# EAGLE library part SM07B-GHS-TB(LF)(SN) (library SM07B-GHS-TB_LF__SN_)
Conn Shrouded Header HDR 7 POS 1.25mm Solder RA SMD Reel
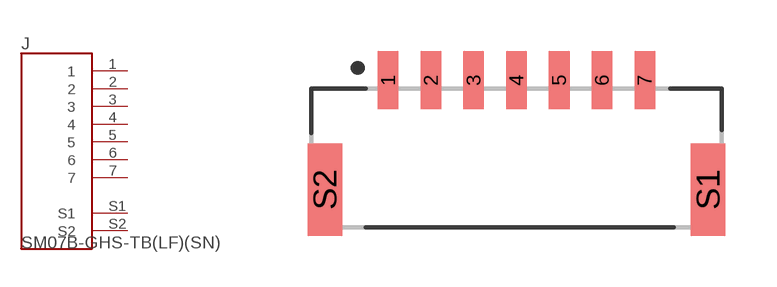
[diagram p0: symbol with the pads of JST_SM07B-GHS-TB(LF)(SN); footprint JST_SM07B-GHS-TB(LF)(SN)]

Designator prefix J

## SM07B-GHS-TB(LF)(SN) (DESCRIPTION: Connector Header Surface Mount, Right Angle 7 position 0.049 (1.25mm); DIGI-KEY_PART_NUMBER: 455-1569-2-ND; MF: JST Sales; MP: SM07B-GHS-TB(LF)(SN); PACKAGE: None; PURCHASE-URL: https://pricing.snapeda.com/search/part/SM07B-GHS-TB(LF)(SN)/?ref=eda)  [JST_SM07B-GHS-TB(LF)(SN)]
1  1  pas
2  2  pas
3  3  pas
4  4  pas
5  5  pas
6  6  pas
7  7  pas
S1  S1  pwr
S2  S2  pwr

## Footprint JST_SM07B-GHS-TB(LF)(SN) (pad centres in mm)
smd 0.6 x 1.7: 1 -3.75,1.85; 2 -2.5,1.85; 3 -1.25,1.85; 4 0,1.85; 5 1.25,1.85; 6 2.5,1.85; 7 3.75,1.85
smd 1 x 2.7: S1 5.6,-1.35; S2 -5.6,-1.35